# EAGLE library part S558-5999-U7-F (library SOP127P921X572-16N)
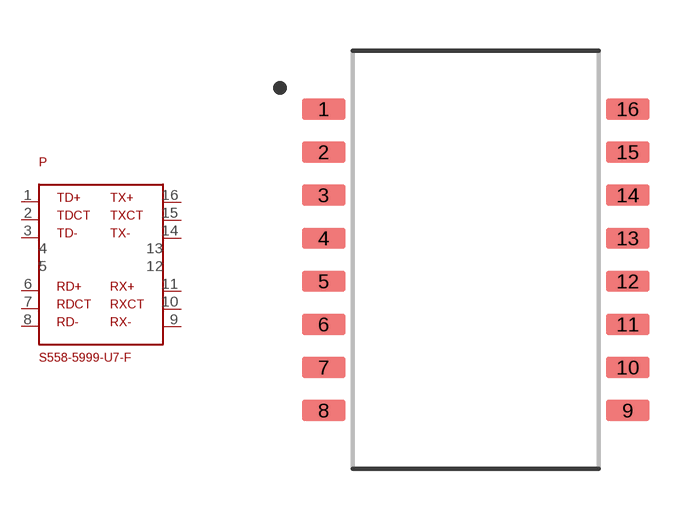
[diagram p0: symbol with the pads of SOP127P921X572-16N; footprint SOP127P921X572-16N]

Designator prefix P

## S558-5999-U7-F (A1_MAX: None; A1_MIN: 0.08; A1_NOM: None; A_MAX: 5.72; A_MIN: None; A_NOM: None; B_MAX: 0.51; B_MIN: 0.41; B_NOM: 0.46; D2_MAX: 0.0; D2_MIN: None; D2_NOM: None; D_MAX: 12.32; D_MIN: 12.32; D_NOM: 12.32; E1_MAX: 7.24; E1_MIN: 7.24; E1_NOM: 7.24; E2_MAX: 0.0; E2_MIN: None; E2_NOM: None; ENOM: 1.27; E_MAX: 9.53; E_MIN: 8.89; E_NOM: 9.21; L_MAX: 0.3; L_MIN: 0.2; L_NOM: 0.25; MANUFACTURER: Bel Fuse; PIN_COUNT: 16.0; SNAPEDA_PACKAGE_ID: 42061)  [SOP127P921X572-16N]
1  P$1
2  P$2
3  P$3
4  P$4
5  P$5
6  P$6
7  P$7
8  P$8
9  P$9
10  P$10
11  P$11
12  P$12
13  P$13
14  P$14
15  P$15
16  P$16

## Footprint SOP127P921X572-16N (pad centres in mm)
smd 1.28 x 0.62: 1 -4.48,4.445; 2 -4.48,3.175; 3 -4.48,1.905; 4 -4.48,0.635; 5 -4.48,-0.635; 6 -4.48,-1.905; 7 -4.48,-3.175; 8 -4.48,-4.445; 9 4.48,-4.445; 10 4.48,-3.175; 11 4.48,-1.905; 12 4.48,-0.635; 13 4.48,0.635; 14 4.48,1.905; 15 4.48,3.175; 16 4.48,4.445